# Altium schematic symbol library DIP-18 DS1019-18N.SchLib: 2 symbols
Pins are listed as number, name and electrical type; pins without a type are passive.

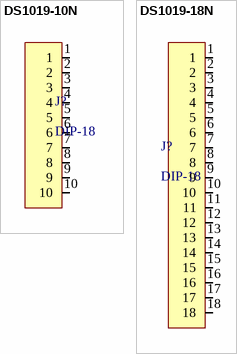
[diagram p0: symbols DS1019-10N to DS1019-18N]

## DS1019-10N
designator J?, comment DIP-18
footprint DS1019-10N
pins: 1, 2, 3, 4, 5, 6, 7, 8, 9, 10

## DS1019-18N
designator J?, comment DIP-18
footprint DS1019-18N
pins: 1, 2, 3, 4, 5, 6, 7, 8, 9, 10, 11, 12, 13, 14, 15, 16, 17, 18